# EAGLE library part XCF02S (library Traficon)
Xilinx Platform Flash In-System Programmable Configuration PROMS Digikey reference: 122-1287-5-ND
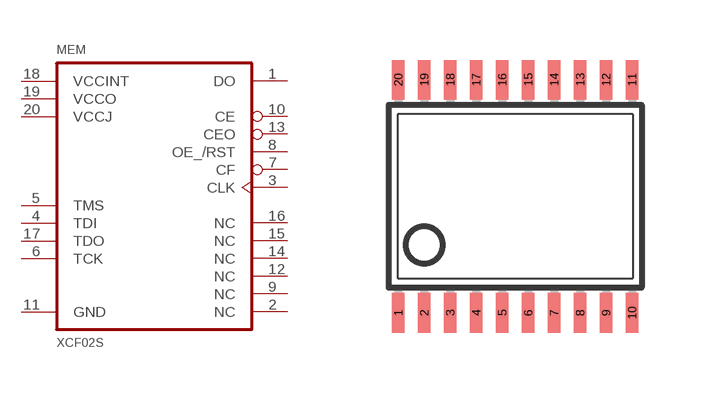
[diagram p95: symbol with the pads of TSSOP20; footprint TSSOP20]

Designator prefix MEM

## XCF02S-VO20  [TSSOP20]
1  DO
2  NC
3  CLK
4  TDI
5  TMS
6  TCK
7  CF
8  OE_/RST
9  NC
10  CE
11  GND
12  NC
13  CEO
14  NC
15  NC
16  NC
17  TDO
18  VCCINT
19  VCCO
20  VCCJ

## Footprint TSSOP20 (pad centres in mm)
Thin Shrink Small Outline Plastic 20 MAX3223-MAX3243.pdf
smd 0.305 x 0.991: 1 -2.925,-2.918; 2 -2.275,-2.918; 3 -1.625,-2.918; 4 -0.975,-2.918; 5 -0.325,-2.918; 6 0.325,-2.918; 7 0.975,-2.918; 8 1.625,-2.918; 9 2.275,-2.918; 10 2.925,-2.918; 11 2.925,2.918; 12 2.275,2.918; 13 1.625,2.918; 14 0.975,2.918; 15 0.325,2.918; 16 -0.325,2.918; 17 -0.975,2.918; 18 -1.625,2.918; 19 -2.275,2.918; 20 -2.925,2.918